# Altium schematic symbol library Резисторы.SchLib: 3 symbols
Pins are listed as number, name and electrical type; pins without a type are passive.

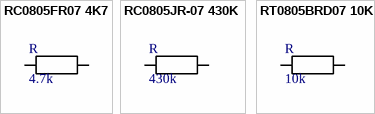
[diagram p0: symbols RC0805FR07 4K7 to RT0805BRD07 10K]

## RC0805FR07 4K7
designator R, comment 4.7k
0.125Вт 0805 4.7 кОм, 1%, RC0805FR-074K7L
footprint R0805 (Chip Resistor)
pins: 1, 2

## RC0805JR-07 430K
designator R, comment 430k
RC0805JR-07 430K
footprint R0805 (Chip Resistor)
pins: 1, 2

## RT0805BRD07 10K
designator R, comment 10k
0.125Вт 0805 10 кОм, 0п.1%, RT0805BRD0710KL
footprint R0805 (Chip Resistor)
pins: 1, 2